# Altium schematic symbol library RPSLib.SchLib: 241 symbols (part 1 of 8)
Pins are listed as number, name and electrical type; pins without a type are passive.

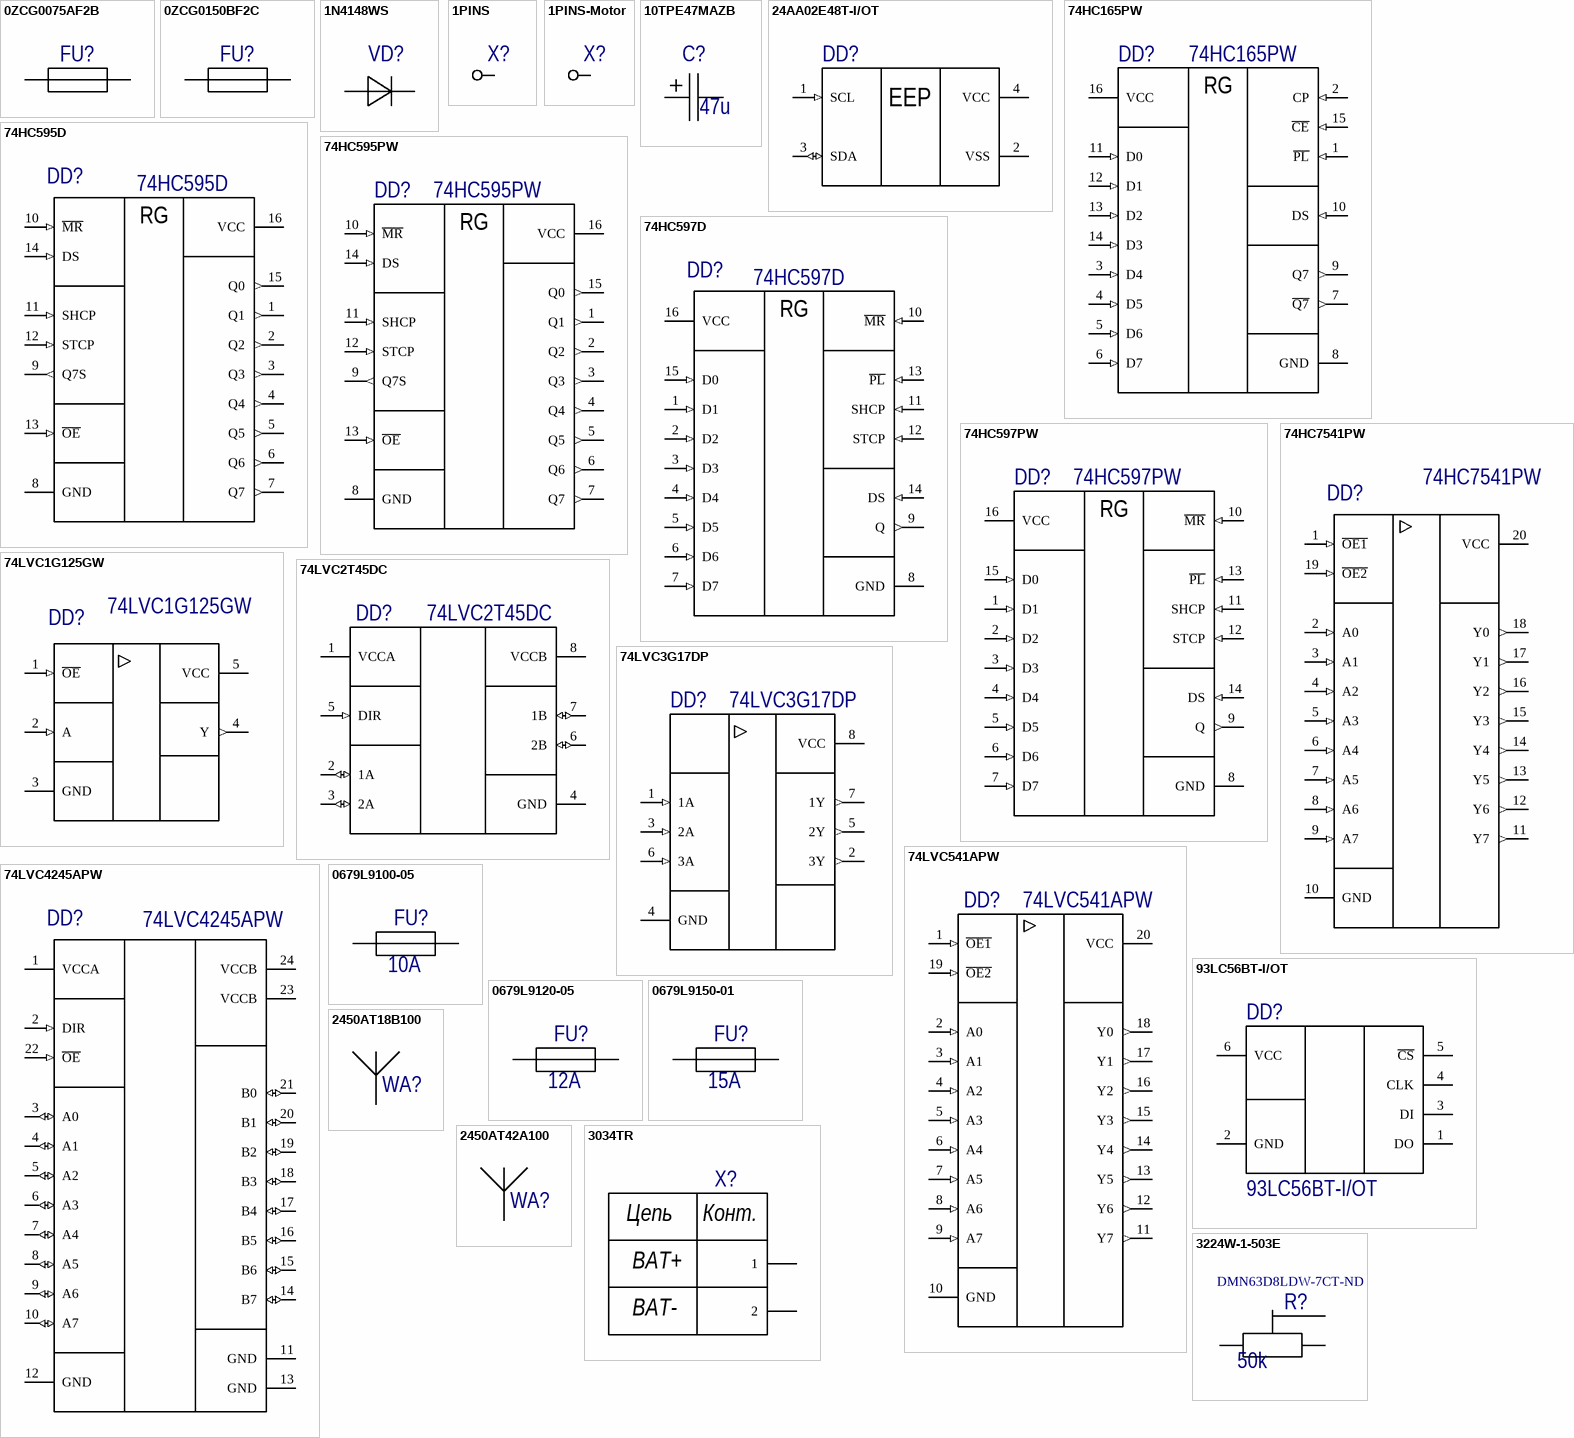
[diagram p0: symbols 0ZCG0075AF2B to 3224W-1-503E]

## 0ZCG0075AF2B
designator FU?  (value not drawn)
PTC RESTTBLE 0.75A 24V CHIP 1812; Manufacturer: Bel; Max Current Rating: 40A; Hold Current: 750mA; Trip Current: 1.5A; Time to Trip: 0.2s; РКД Наименование: *; Supplier 1: Digi-Key; Manufacturer Part Number: 0ZCG0075AF2B; Stock 1: 1719; Pricing 1: 1=0.21, 5=0.2, 10=0.191, 50=0.1706, 100=0.1588, 250=0.1411, 500=0.1176 (USD); Case/Package: 1812; Case Code (Metric): 4532; Case Code (Imperial): 1812; Package Quantity: 1; Packaging: Cut Tape; ComponentLink1URL: https://www.belfuse.com/resources/CircuitProtection/datasheets/0ZCG%20Nov2016.pdf?src-supplier=Digi-Key; ComponentLink1Description: https://www.belfuse.com/resources/CircuitProtection/datasheets/0ZCG%20Nov2016.pdf?src-supplier=Digi-Key; Supplier Part Number 1: 507-1764-1-ND
footprint FUSE4632X15N (Chip Fuse, 2-Leads, Body 4,55x3,24mm, IPC Medium Density)
pins: 1, 2

## 0ZCG0150BF2C
designator FU?  (value not drawn)
PTC RESTTBLE 1.50A 24V CHIP 1812; Manufacturer: Bel; Max Current Rating: 100A; Power Dissipation: 1W; Hold Current: 1.5A; Trip Current: 3A; Time to Trip: 1.5s; Approvals: TUV,UL; Supplier 1: Digi-Key; Manufacturer Part Number: 0ZCG0150BF2C; Stock 1: 213519; Pricing 1: 1=0.21, 5=0.2, 10=0.191, 50=0.1706, 100=0.1588, 250=0.14112, 500=0.1176, 1000=0.11172 (USD); Mount: Surface Mount; Case/Package: 1812; Case Code (Metric): 4532; Case Code (Imperial): 1812; Contact Plating: Matte,Tin; Number of Terminals: 2; Min Operating Temperature: -40°C; Max Operating Temperature: 85°C; Package Quantity: 1; Packaging: Tape and Reel; Max Voltage Rating (DC): 24V; Lead Free: Lead Free; Supplier Part Number 1: 507-1773-1-ND; РКД Наименование: *
footprint FUSE4632X15N (Chip Fuse, 2-Leads, Body 4,55x3,24mm, IPC Medium Density)
pins: 1, 2

## 1N4148WS
designator VD?  (value not drawn)
DIODE GEN PURP 75V 150MA SOD323F; Manufacturer: ON Semiconductor / Fairchild; Element Configuration: Single; Reverse Recovery Time: 4ns; Forward Voltage: 1V; Peak Reverse Current: 5uA; Power Dissipation: 200mW; Max Forward Surge Current (Ifsm): 2A; Supplier 1: Digi-Key; Manufacturer Part Number: 1N4148WS; RoHS: Yes; Category: Rectifier Diodes; Stock 1: 500500; Pricing 1: 1=0,17000, 10=0,15200, 100=0,06350, 500=0,04986, 1000=0,03462 (USD); Mount: Surface Mount; Number of Pins: 2; Weight: 0.0276g; Contact Plating: Tin,Matte; Min Operating Temperature: -55°C; Max Operating Temperature: 150°C; Forward Current: 150mA; Max Repetitive Reverse Voltage (Vrrm): 75V; Packaging: Tape and Reel; Package Quantity: 1; Average Rectified Current: 150mA; Max Reverse Voltage (DC): 75V; Recovery Time: 4ns; Reverse Voltage: 75V; Length: 1.8mm; Height: 1mm; Width: 1.35mm; Radiation Hardening: No; Lead Free: Lead Free; REACH SVHC: No SVHC; ComponentLink1URL: https://datasheet.ciiva.com/25968/1n914bws-25968945.pdf?src-supplier=Avnet+Europe; ComponentLink1Description: https://datasheet.ciiva.com/25968/1n914bws-25968945.pdf?src-supplier=Avnet+Europe; ComponentLink2URL: https://datasheet.ciiva.com/30479/0900766b810e1cd3-30479206.pdf?src-supplier=RSComponents; ComponentLink2Description: https://datasheet.ciiva.com/30479/0900766b810e1cd3-30479206.pdf?src-supplier=RSComponents; ComponentLink3URL: https://datasheet.ciiva.com/15208/getdatasheetpartid-127819-15208358.pdf?src-supplier=Verical; ComponentLink3Description: https://datasheet.ciiva.com/15208/getdatasheetpartid-127819-15208358.pdf?src-supplier=Verical; ComponentLink4URL: https://datasheet.ciiva.com/8300/1n914bws-8300360.pdf?src-supplier=Avnet; ComponentLink4Description: https://datasheet.ciiva.com/8300/1n914bws-8300360.pdf?src-supplier=Avnet; ComponentLink5URL: https://datasheet.ciiva.com/910/1n4148ws-910380.pdf?src-supplier=Digi-Key; ComponentLink5Description: https://datasheet.ciiva.com/910/1n4148ws-910380.pdf?src-supplier=Digi-Key; ComponentLink6URL: https://datasheet.ciiva.com/910/1n4148ws-910381.pdf?src-supplier=Digi-Key; ComponentLink6Description: https://datasheet.ciiva.com/910/1n4148ws-910381.pdf?src-supplier=Digi-Key; ComponentLink7URL: https://datasheet.ciiva.com/910/1n4148ws-910382.pdf?src-supplier=Digi-Key; ComponentLink7Description: https://datasheet.ciiva.com/910/1n4148ws-910382.pdf?src-supplier=Digi-Key; Supplier Part Number 1: 1N4148WSFSCT-ND
footprint SOD323
pins: 1 K, 2 A

## 1PINS
designator X?  (value not drawn)
footprint 1Pin
pins: 1

## 1PINS-Motor
designator X?  (value not drawn)
footprint 1Pin - motor
pins: 1

## 10TPE47MAZB
designator C?  value 47u  (hidden comment: 10TPE47MAZB)
CAP TANT POLY 47UF 10V 1411; Manufacturer: Panasonic; Tolerance: 20%; Leakage Current: 47uA; Polarity: Polar; ESR (Equivalent Series Resistance): 35mR; Ripple Current: 1.4A; Dissipation Factor: 8%; Supplier 1: Digi-Key; Manufacturer Part Number: 10TPE47MAZB; RoHS: Yes; Category: Tantalum Capacitors; Stock 1: 9220; Pricing 1: 1=1,15000, 10=0,90800, 100=0,68080, 500=0,51436, 1000=0,45386 (USD); Mount: Surface Mount; Case/Package: Molded; Number of Pins: 2; Case Code (Metric): 3528; Case Code (Imperial): 1411; Min Operating Temperature: -55°C; Max Operating Temperature: 105°C; Package Quantity: 2000; Packaging: Tape and Reel; Capacitance: 47uF; Voltage Rating: 10V; Voltage Rating (DC): 10V; Termination: SMD/SMT; Voltage: 10V; Features: General Purpose; Length: 3.5mm; Height: 1.9mm; Width: 0.11inch; Height - Seated (Max): 0.079inch; Depth: 2.8mm; Radiation Hardening: No; REACH SVHC: No SVHC; Lead Free: Lead Free; ComponentLink1URL: https://datasheet.ciiva.com/24022/tpe-os-262406-24022443.pdf?src-supplier=Mouser; ComponentLink1Description: https://datasheet.ciiva.com/24022/tpe-os-262406-24022443.pdf?src-supplier=Mouser; ComponentLink2URL: https://datasheet.ciiva.com/48674/aaa8000ce5-48674989.pdf?src-supplier=Avnet; ComponentLink2Description: https://datasheet.ciiva.com/48674/aaa8000ce5-48674989.pdf?src-supplier=Avnet; Supplier Part Number 1: P16230CT-ND
footprint CAPMP3528X19N-B (Molded Capacitor, 2-Leads, Body 3.50x2.80mm, IPC Medium Density)
pins: 1, 2

## 24AA02E48T-I/OT
designator DD?  (value not drawn)
MICROCHIP   24AA02E48T-I/OT   EEPROM, EUI-48 Node Identity, 2 Kbit, 2 BLK (128K x 8bit), 400 kHz, I2C, SOT-23, 5 Pins; Interface: I2C,Serial; Access Time: 3500ns; Density: 2Kb; Max Frequency: 100kHz; Frequency: 400kHz; Max Supply Voltage: 5.5V; Min Supply Voltage: 1.7V; Nominal Supply Current: 3mA; Operating Supply Voltage: 5V; IIC Address: 1010xxx; Supplier 1: Digi-Key; Manufacturer: Microchip; Manufacturer Part Number: 24AA02E48T-I/OT; RoHS: Yes; Category: EEPROM; Stock 1: 7513; Pricing 1: 1=0,22000, 25=0,21000 (USD); Mount: Surface Mount; Case/Package: SOT-23; Number of Pins: 5; Min Operating Temperature: -40°C; Max Operating Temperature: 85°C; Packaging: Tape and Reel; Package Quantity: 3000; Memory Type: EEPROM; Memory Size: 2Kb; Termination: SMD/SMT; Length: 3.1mm; Height: 1.3mm; Width: 1.8mm; Radiation Hardening: No; REACH SVHC: No SVHC; Lead Free: Lead Free; ComponentLink1URL: https://datasheet.ciiva.com/1154/1688094-1154691.pdf?src-supplier=Element14; ComponentLink1Description: https://datasheet.ciiva.com/1154/1688094-1154691.pdf?src-supplier=Element14; ComponentLink2URL: https://datasheet.ciiva.com/1154/1688094-1154692.pdf?src-supplier=Element14; ComponentLink2Description: https://datasheet.ciiva.com/1154/1688094-1154692.pdf?src-supplier=Element14; ComponentLink3URL: https://datasheet.ciiva.com/46410/22124d-46410949.pdf?src-supplier=Element14; ComponentLink3Description: https://datasheet.ciiva.com/46410/22124d-46410949.pdf?src-supplier=Element14; ComponentLink4URL: https://datasheet.ciiva.com/28656/1725195-28656087.pdf?src-supplier=Element14; ComponentLink4Description: https://datasheet.ciiva.com/28656/1725195-28656087.pdf?src-supplier=Element14; ComponentLink5URL: https://datasheet.ciiva.com/16622/22124d-16622937.pdf?src-supplier=Avnet+Europe; ComponentLink5Description: https://datasheet.ciiva.com/16622/22124d-16622937.pdf?src-supplier=Avnet+Europe; ComponentLink6URL: https://datasheet.ciiva.com/16426/filehandler-aspxddocname-en538826-16426700.pdf?src-supplier=Future+Electronics; ComponentLink6Description: https://datasheet.ciiva.com/16426/filehandler-aspxddocname-en538826-16426700.pdf?src-supplier=Future+Electronics; ComponentLink7URL: https://datasheet.ciiva.com/29294/651228-da-01-en-eeprom-24aa02e48t-i-ot-sot-23-5-mcp-29294263.pdf?src-supplier=Conrad; ComponentLink7Description: https://datasheet.ciiva.com/29294/651228-da-01-en-eeprom-24aa02e48t-i-ot-sot-23-5-mcp-29294263.pdf?src-supplier=Conrad; Supplier Part Number 1: 24AA02E48T-I/OTCT-ND
footprint SOT95P280X145-5N (SOT23, 5-Leads, Body 2.90x2.80mm, Pitch 0.95mm, IPC Medium Density)
pins: 1 SCL (in), 2 VSS (power), 3 SDA (io), 4 VCC (power)
text: EEP

## 74HC165PW
designator DD?
IC SHIFT REGISTER 8BIT 16TSSOP; Manufacturer: Nexperia; Manufacturer Part Number: 74HC165PW,118; Supplier 1: Digi-Key; RoHS: No; Stock 1: 19921; Pricing 1: 1=0,41000, 10=0,33600, 25=0,30720, 100=0,22870, 250=0,20728, 500=0,17152, 1000=0,12865 (USD); Supplier Part Number 1: 1727-4295-1-ND
footprint TSOP65P640X110-16N (TSOP, 16-Leads, Body 5,00x4,40mm, Pitch 0,65mm, IPC Medium Density)
pins: 1 ~{PL} (in), 2 CP (in), 3 D4 (in), 4 D5 (in), 5 D6 (in), 6 D7 (in), 7 ~{Q7} (out), 8 GND (power), 9 Q7 (out), 10 DS (in), 11 D0 (in), 12 D1 (in), 13 D2 (in), 14 D3 (in), 15 ~{CE} (in), 16 VCC (power)
text: RG

## 74HC595D
designator DD?
IC SHIFT REGISTER 8BIT 16SOIC; Manufacturer: Nexperia; Manufacturer Part Number: 74HC595D,118; Supplier 1: Digi-Key; Stock 1: 104953; Pricing 1: 1=0,48000, 10=0,36500, 25=0,32920, 100=0,22740, 250=0,19148, 500=0,15558, 1000=0,11968 (USD); RoHS: No; ComponentLink1URL: http://www.farnell.com/datasheets/2038613.pdf?src-supplier=Farnell; ComponentLink1Description: http://www.farnell.com/datasheets/2038613.pdf?src-supplier=Farnell; ComponentLink2URL: http://www.farnell.com/datasheets/2038613.pdf?src-supplier=Newark; ComponentLink2Description: http://www.farnell.com/datasheets/2038613.pdf?src-supplier=Newark; ComponentLink3URL: http://www.farnell.com/datasheets/2038613.pdf?src-supplier=Element14; ComponentLink3Description: http://www.farnell.com/datasheets/2038613.pdf?src-supplier=Element14; ComponentLink4URL: https://assets.nexperia.com/documents/data-sheet/74HC_HCT595.pdf?src-supplier=Digi-Key; ComponentLink4Description: https://assets.nexperia.com/documents/data-sheet/74HC_HCT595.pdf?src-supplier=Digi-Key; Supplier Part Number 1: 1727-2821-1-ND
footprint SOIC127P600X175-16N (SOIC, 16-Leads, Body 9,90x3,90mm, Pitch 1,27mm, IPC Medium Density)
pins: 1 Q1 (out), 2 Q2 (out), 3 Q3 (out), 4 Q4 (out), 5 Q5 (out), 6 Q6 (out), 7 Q7 (out), 8 GND (power), 9 Q7S (out), 10 ~{MR} (in), 11 SHCP (in), 12 STCP (in), 13 ~{OE} (in), 14 DS (in), 15 Q0 (out), 16 VCC (power)
text: RG

## 74HC595PW
designator DD?
IC SHIFT REGISTER 8BIT 16TSSOP; Manufacturer: Nexperia; Manufacturer Part Number: 74HC595PW,118; Supplier 1: Digi-Key; RoHS: No; Stock 1: 252659; Pricing 1: 1=0,48000, 10=0,35900, 25=0,32400, 100=0,22390, 250=0,18856, 500=0,15320, 1000=0,11784 (USD); ComponentLink1URL: http://www.farnell.com/datasheets/2242041.pdf?src-supplier=Farnell; ComponentLink1Description: http://www.farnell.com/datasheets/2242041.pdf?src-supplier=Farnell; ComponentLink2URL: https://assets.nexperia.com/documents/data-sheet/74HC_HCT595.pdf?src-supplier=Digi-Key; ComponentLink2Description: https://assets.nexperia.com/documents/data-sheet/74HC_HCT595.pdf?src-supplier=Digi-Key; Supplier Part Number 1: 1727-3068-1-ND
footprint TSOP65P640X110-16N (TSOP, 16-Leads, Body 5,00x4,40mm, Pitch 0,65mm, IPC Medium Density)
pins: 1 Q1 (out), 2 Q2 (out), 3 Q3 (out), 4 Q4 (out), 5 Q5 (out), 6 Q6 (out), 7 Q7 (out), 8 GND (power), 9 Q7S (out), 10 ~{MR} (in), 11 SHCP (in), 12 STCP (in), 13 ~{OE} (in), 14 DS (in), 15 Q0 (out), 16 VCC (power)
text: RG

## 74HC597D
designator DD?
IC SHIFT REGISTER 8BIT 16SOIC; Manufacturer: NXP Semiconductors; Manufacturer Part Number: 74HC597D653; Operating Supply Voltage: 5V; Direction: Unidirectional; Number of Inputs: 8; Number of Elements: 1; Propagation Delay: 16ns; Min Supply Voltage: 2V; Max Supply Voltage: 6V; Number of Input Lines: 9; Turn-On Delay Time: 375ns; Quiescent Current: 8uA; RoHS: Yes; Mount: Surface Mount; Case/Package: SO; Number of Pins: 16; Contact Plating: Gold; Min Operating Temperature: -40°C; Max Operating Temperature: 125°C; Logic Function: Shift Register; Package Quantity: 1; Packaging: Tape and Reel; Number of Bits per Element: 8; Number of Circuits: 1; Number of Output Lines: 1; Number of Bits: 8; Radiation Hardening: No; REACH SVHC: No SVHC; Lead Free: Lead Free; ComponentLink1URL: https://datasheet.ciiva.com/1886/74hc-hct597-1886032.pdf?src-supplier=Digi-Key; ComponentLink1Description: https://datasheet.ciiva.com/1886/74hc-hct597-1886032.pdf?src-supplier=Digi-Key; ComponentLink2URL: https://datasheet.ciiva.com/46414/1841946-46414906.pdf?src-supplier=Element14; ComponentLink2Description: https://datasheet.ciiva.com/46414/1841946-46414906.pdf?src-supplier=Element14; ComponentLink3URL: https://datasheet.ciiva.com/1886/74hc-hct597-1886030.pdf?src-supplier=Digi-Key; ComponentLink3Description: https://datasheet.ciiva.com/1886/74hc-hct597-1886030.pdf?src-supplier=Digi-Key; ComponentLink4URL: https://datasheet.ciiva.com/1886/74hc-hct597-1886031.pdf?src-supplier=Digi-Key; ComponentLink4Description: https://datasheet.ciiva.com/1886/74hc-hct597-1886031.pdf?src-supplier=Digi-Key; Supplier 1: Digi-Key; Supplier Part Number 1: 1727-6341-1-ND
footprint SOIC127P600X175-16N (SOIC, 16-Leads, Body 9,90x3,90mm, Pitch 1,27mm, IPC Medium Density)
pins: 1 D1 (in), 2 D2 (in), 3 D3 (in), 4 D4 (in), 5 D5 (in), 6 D6 (in), 7 D7 (in), 8 GND (power), 9 Q (out), 10 ~{MR} (in), 11 SHCP (in), 12 STCP (in), 13 ~{PL} (in), 14 DS (in), 15 D0 (in), 16 VCC (power)
text: RG

## 74HC597PW
designator DD?
IC 8BIT SHIFT REGISTER 16TSSOP; Manufacturer: Nexperia USA; Manufacturer Part Number: 74HC597PW,118; Supplier 1: Digi-Key; RoHS: No; Stock 1: 9837; Pricing 1: 1=0,63000, 10=0,53700, 25=0,50080, 100=0,40060, 250=0,37200, 500=0,31476, 1000=0,24322 (USD); ComponentLink1URL: https://assets.nexperia.com/documents/data-sheet/74HC_HCT597.pdf?src-supplier=Digi-Key; ComponentLink1Description: https://assets.nexperia.com/documents/data-sheet/74HC_HCT597.pdf?src-supplier=Digi-Key; Supplier Part Number 1: 1727-5962-1-ND
footprint TSOP65P640X110-16N (TSOP, 16-Leads, Body 5,00x4,40mm, Pitch 0,65mm, IPC Medium Density)
pins: 1 D1 (in), 2 D2 (in), 3 D3 (in), 4 D4 (in), 5 D5 (in), 6 D6 (in), 7 D7 (in), 8 GND (power), 9 Q (out), 10 ~{MR} (in), 11 SHCP (in), 12 STCP (in), 13 ~{PL} (in), 14 DS (in), 15 D0 (in), 16 VCC (power)
text: RG

## 74HC7541PW
designator DD?
Schmitt Trigger Buffer/Line Driver 8-CH Non-Inverting 3-ST CMOS 20-Pin TSSOP T/R; Manufacturer: Nexperia; Manufacturer Part Number: 74HC7541PW,118; Supplier 1: Digi-Key; Stock 1: 1843; Pricing 1: 1=0,77000, 10=0,68000, 25=0,63880, 100=0,52120, 250=0,48412, 500=0,41200, 1000=0,32960 (USD); RoHS: No; Supplier Part Number 1: 1727-7531-1-ND
footprint TSOP65P640X110-20N (TSOP, 20-Leads, Body 6,50x4,40mm, Pitch 0,65mm, IPC Medium Density)
pins: 1 ~{OE1} (in), 2 A0 (in), 3 A1 (in), 4 A2 (in), 5 A3 (in), 6 A4 (in), 7 A5 (in), 8 A6 (in), 9 A7 (in), 10 GND (power), 11 Y7 (out), 12 Y6 (out), 13 Y5 (out), 14 Y4 (out), 15 Y3 (out), 16 Y2 (out), 17 Y1 (out), 18 Y0 (out), 19 ~{OE2} (in), 20 VCC (power)

## 74LVC1G125GW
designator DD?
IC BUF NON-INVERT 5.5V 5TSSOP; Manufacturer: Nexperia USA; Manufacturer Part Number: 74LVC1G125GW,125; Supplier 1: Digi-Key; Stock 1: 102445; Pricing 1: 1=0,25000, 10=0,20600, 25=0,17240, 100=0,10910, 250=0,08420, 500=0,07178, 1000=0,04881 (USD); RoHS: No; ComponentLink1URL: http://www.farnell.com/datasheets/2192952.pdf?src-supplier=Farnell; ComponentLink1Description: http://www.farnell.com/datasheets/2192952.pdf?src-supplier=Farnell; ComponentLink2URL: https://assets.nexperia.com/documents/data-sheet/74LVC1G125.pdf?src-supplier=Digi-Key; ComponentLink2Description: https://assets.nexperia.com/documents/data-sheet/74LVC1G125.pdf?src-supplier=Digi-Key; Supplier Part Number 1: 1727-3488-1-ND
footprint SOT65P212X110-5N (SOT23, 5-Leads, Body 2,05x2,13mm, Pitch 0,65mm, IPC Medium Density)
pins: 1 ~{OE} (in), 2 A (in), 3 GND (power), 4 Y (out), 5 VCC (power)

## 74LVC2T45DC
designator DD?
IC TRNSLTR BIDIRECTIONAL 8VSSOP; Manufacturer: Nexperia; Manufacturer Part Number: 74LVC2T45DC,125; Supplier 1: Digi-Key; RoHS: No; Stock 1: 13578; Pricing 1: 1=0,65000, 10=0,55700, 100=0,38650, 500=0,31216, 1000=0,23041 (USD); ComponentLink1URL: http://www.farnell.com/datasheets/1758266.pdf?src-supplier=Farnell; ComponentLink1Description: http://www.farnell.com/datasheets/1758266.pdf?src-supplier=Farnell; ComponentLink2URL: https://assets.nexperia.com/documents/data-sheet/74LVC_LVCH2T45.pdf?src-supplier=Digi-Key; ComponentLink2Description: https://assets.nexperia.com/documents/data-sheet/74LVC_LVCH2T45.pdf?src-supplier=Digi-Key; Supplier Part Number 1: 1727-4578-1-ND
footprint TSSOP50P310X100-8N (TSSOP, 8-Leads, Body 2,00x2,30mm, Pitch 0,50mm, IPC Medium Density)
pins: 1 VCCA, 2 1A (io), 3 2A (io), 4 GND, 5 DIR (in), 6 2B (io), 7 1B (io), 8 VCCB (power)

## 74LVC3G17DP
designator DD?
IC BUF NON-INVERT 5.5V 8TSSOP; Manufacturer: Nexperia; Manufacturer Part Number: 74LVC3G17DP,125; Supplier 1: Digi-Key; RoHS: No; Stock 1: 88518; Pricing 1: 1=0,56000, 10=0,48300, 25=0,45080, 100=0,36050, 250=0,33476, 500=0,28326, 1000=0,21888 (USD); ComponentLink1URL: https://assets.nexperia.com/documents/data-sheet/74LVC3G17.pdf?src-supplier=Digi-Key; ComponentLink1Description: https://assets.nexperia.com/documents/data-sheet/74LVC3G17.pdf?src-supplier=Digi-Key; Supplier Part Number 1: 1727-5998-1-ND
footprint TSSOP50P310X100-8N (TSSOP, 8-Leads, Body 2,00x2,30mm, Pitch 0,50mm, IPC Medium Density)
pins: 1 1A (in), 2 3Y (out), 3 2A (in), 4 GND (power), 5 2Y (out), 6 3A (in), 7 1Y (out), 8 VCC (power)

## 74LVC541APW
designator DD?
IC BUF NON-INVERT 3.6V 20TSSOP; Manufacturer: Nexperia; Manufacturer Part Number: 74LVC541APW,118; Supplier 1: Digi-Key; Stock 1: 35269; Pricing 1: 1=0,49000, 10=0,39800, 25=0,36440, 100=0,27120, 250=0,24576, 500=0,20338, 1000=0,15253 (USD); RoHS: No; ComponentLink1URL: https://assets.nexperia.com/documents/data-sheet/74LVC541A.pdf?src-supplier=Digi-Key; ComponentLink1Description: https://assets.nexperia.com/documents/data-sheet/74LVC541A.pdf?src-supplier=Digi-Key; Supplier Part Number 1: 1727-6370-1-ND
footprint TSOP65P640X110-20N (TSOP, 20-Leads, Body 6,50x4,40mm, Pitch 0,65mm, IPC Medium Density)
pins: 1 ~{OE1} (in), 2 A0 (in), 3 A1 (in), 4 A2 (in), 5 A3 (in), 6 A4 (in), 7 A5 (in), 8 A6 (in), 9 A7 (in), 10 GND (power), 11 Y7 (out), 12 Y6 (out), 13 Y5 (out), 14 Y4 (out), 15 Y3 (out), 16 Y2 (out), 17 Y1 (out), 18 Y0 (out), 19 ~{OE2} (in), 20 VCC (power)

## 74LVC4245APW
designator DD?
IC TRNSLTR BIDIRECTIONAL 24TSSOP; Manufacturer: Nexperia; Manufacturer Part Number: 74LVC4245APW,118; Supplier 1: Digi-Key; Stock 1: 36824; Pricing 1: 1=0,67000, 10=0,58900, 25=0,55320, 100=0,45160, 250=0,41948, 500=0,35700, 1000=0,28560 (USD); RoHS: No; ComponentLink1URL: http://www.farnell.com/datasheets/1714648.pdf?src-supplier=Farnell; ComponentLink1Description: http://www.farnell.com/datasheets/1714648.pdf?src-supplier=Farnell; ComponentLink2URL: https://assets.nexperia.com/documents/data-sheet/74LVC4245A.pdf?src-supplier=Digi-Key; ComponentLink2Description: https://assets.nexperia.com/documents/data-sheet/74LVC4245A.pdf?src-supplier=Digi-Key; ComponentLink3URL: http://www.farnell.com/datasheets/1714648.pdf?src-supplier=Element14; ComponentLink3Description: http://www.farnell.com/datasheets/1714648.pdf?src-supplier=Element14; Supplier Part Number 1: 1727-4308-6-ND
footprint TSOP65P640X110-24N (TSOP, 24-Leads, Body 7,80x4,40mm, Pitch 0,65mm, IPC Medium Density)
pins: 1 VCCA (power), 2 DIR (in), 3 A0 (io), 4 A1 (io), 5 A2 (io), 6 A3 (io), 7 A4 (io), 8 A5 (io), 9 A6 (io), 10 A7 (io), 11 GND (power), 12 GND (power), 13 GND (power), 14 B7 (io), 15 B6 (io), 16 B5 (io), 17 B4 (io), 18 B3 (io), 19 B2 (io), 20 B1 (io), 21 B0 (io), 22 ~{OE} (in), 23 VCCB (power), 24 VCCB (power)

## 93LC56BT-I/OT
designator DD?
IC EEPROM 2K SPI 2MHZ SOT23-6; Manufacturer: Microchip; Density: 2Kb; Interface: Serial; Max Supply Voltage: 5.5V; Min Supply Voltage: 2.5V; Access Time: 250ns; Nominal Supply Current: 2mA; Supplier 1: Digi-Key; Manufacturer Part Number: 93LC56BT-I/OT; Stock 1: 30936; Pricing 1: 1=0.23, 25=0.2164, 100=0.2119 (USD); Mount: Surface Mount; Case/Package: SOT-23; Number of Pins: 6; Contact Plating: Matte,Tin; Min Operating Temperature: -40°C; Max Operating Temperature: 85°C; Max Frequency: 2MHz; Packaging: Tape and Reel; Package Quantity: 3000; Memory Size: 2Kb; Frequency: 2MHz; Memory Type: EEPROM; Length: 3.1mm; Height: 1.3mm; Width: 1.8mm; Radiation Hardening: No; REACH SVHC: No SVHC; Lead Free: Lead Free; ComponentLink1URL: http://ww1.microchip.com/downloads/jp/DeviceDoc/jp013939.pdf; ComponentLink1Description: http://ww1.microchip.com/downloads/jp/DeviceDoc/jp013939.pdf; ComponentLink2URL: http://www.microchip.com/mymicrochip/filehandler.aspx?ddocname=en013939; ComponentLink2Description: http://www.microchip.com/mymicrochip/filehandler.aspx?ddocname=en013939; Supplier Part Number 1: 93LC56BT-I/OTCT-ND
footprint SOT95P280X145-6N (SOT23, 6-Leads, Body 2.92x2.80mm, Pitch 0.95mm, IPC Medium Density)
pins: 1 DO, 2 GND, 3 DI, 4 CLK, 5 ~{CS}, 6 VCC

## 0679L9100-05
designator FU?  Current Rating: 10A  (hidden comment: 0679L9100-05)
FUSE BRD MNT 10A 125VAC/VDC; Manufacturer: Bel; Fuse Type: Board Mount (Cartridge Style Excluded); Voltage Rating (AC): 125V; DC Cold Resistance: 6.6mR; Approvals: cURus; Supplier 1: Digi-Key; Manufacturer Part Number: 0679L9100-05; RoHS: Yes; Category: Fuses; Stock 1: 2626; Pricing 1: 1=0,39000, 5=0,38000, 10=0,36700, 50=0,30920, 100=0,25660, 250=0,23332, 500=0,19832, 1000=0,17498 (USD); Mount: Surface Mount; Case/Package: 2410; Case Code (Imperial): 2410; Case Code (Metric): 6125; Min Operating Temperature: -55°C; Max Operating Temperature: 125°C; Packaging: Tape and Reel; Voltage Rating (DC): 125V; Length: 0.24inch; Height: 0.11inch; Width: 0.1inch; ComponentLink1URL: http://www.belfuse.com/resources/CircuitProtection/datasheets/0679L%20Sep2016.pdf?src-supplier=Digi-Key; ComponentLink1Description: http://www.belfuse.com/resources/CircuitProtection/datasheets/0679L%20Sep2016.pdf?src-supplier=Digi-Key; ComponentLink2URL: https://www.belfuse.com/resources/CircuitProtection/datasheets/0679L%20Sep2016.pdf?src-supplier=Digi-Key; ComponentLink2Description: https://www.belfuse.com/resources/CircuitProtection/datasheets/0679L%20Sep2016.pdf?src-supplier=Digi-Key; Supplier Part Number 1: 507-1998-1-ND
footprint 0679L BelFuse
pins: 1, 2

## 0679L9120-05
designator FU?  Current Rating: 12A  (hidden comment: 0679L9120-05)
FUSE BRD MNT 12A 125VAC/VDC; Manufacturer: Bel; Voltage Rating (AC): 125V; DC Cold Resistance: 5.6mR; Fuse Type: Board Mount (Cartridge Style Excluded); Approvals: cURus; Supplier 1: Digi-Key; Manufacturer Part Number: 0679L9120-05; RoHS: Yes; Category: Fuses; Stock 1: 7733; Pricing 1: 1=0,39000, 5=0,38000, 10=0,36700, 50=0,30920, 100=0,25660, 250=0,23332, 500=0,19832, 1000=0,17498 (USD); Mount: Surface Mount; Case/Package: 2410; Case Code (Metric): 6125; Case Code (Imperial): 2410; Min Operating Temperature: -55°C; Max Operating Temperature: 125°C; Packaging: Tape and Reel; Voltage Rating (DC): 125V; Length: 0.24inch; Height: 0.11inch; Width: 0.1inch; ComponentLink1URL: http://www.belfuse.com/resources/CircuitProtection/datasheets/0679L%20Sep2016.pdf?src-supplier=Digi-Key; ComponentLink1Description: http://www.belfuse.com/resources/CircuitProtection/datasheets/0679L%20Sep2016.pdf?src-supplier=Digi-Key; ComponentLink2URL: https://www.belfuse.com/resources/CircuitProtection/datasheets/0679L%20Sep2016.pdf?src-supplier=Digi-Key; ComponentLink2Description: https://www.belfuse.com/resources/CircuitProtection/datasheets/0679L%20Sep2016.pdf?src-supplier=Digi-Key; Supplier Part Number 1: 507-1999-1-ND
footprint 0679L BelFuse
pins: 1, 2

## 0679L9150-01
designator FU?  Current Rating: 15A  (hidden comment: 0679L9150-01)
Fuse Chip Fast Acting 15A 125V Solder Pad SMD 2410 Ceramic T/R; Manufacturer: Bel; DC Cold Resistance: 3.8mR; Fuse Type: Board Mount (Cartridge Style Excluded); Approvals: cURus; Supplier 1: Digi-Key; Manufacturer Part Number: 0679L9150-01; RoHS: Yes; Category: Fuses; Stock 1: 2294; Pricing 1: 1=0,48000, 5=0,47000, 10=0,45500, 50=0,38260, 100=0,31760, 250=0,28876, 500=0,24544 (USD); Mount: Surface Mount; Case/Package: 2410; Case Code (Metric): 6125; Case Code (Imperial): 2410; Min Operating Temperature: -55°C; Max Operating Temperature: 125°C; Packaging: Tape and Reel; Voltage Rating (AC): 125V; Voltage Rating (DC): 125V; Length: 0.24inch; Height: 0.11inch; Width: 0.1inch; ComponentLink1URL: http://www.belfuse.com/resources/CircuitProtection/datasheets/0679L%20Sep2016.pdf?src-supplier=Digi-Key; ComponentLink1Description: http://www.belfuse.com/resources/CircuitProtection/datasheets/0679L%20Sep2016.pdf?src-supplier=Digi-Key; ComponentLink2URL: https://www.belfuse.com/resources/CircuitProtection/datasheets/0679L%20Sep2016.pdf?src-supplier=Digi-Key; ComponentLink2Description: https://www.belfuse.com/resources/CircuitProtection/datasheets/0679L%20Sep2016.pdf?src-supplier=Digi-Key; Supplier Part Number 1: 507-1979-1-ND
footprint 0679L BelFuse
pins: 1, 2

## 2450AT18B100
designator WA?  (value not drawn)
2450 MHz Chip antenna; Manufacturer: Johanson; Manufacturer Part Number: 2450AT18B100E; Impedance: 50R; Bandwidth: 100MHz; Power Rating: 3W; Number of Bands: 1; Return Loss: -9.5dB; Frequency: 2.45GHz; Max Frequency: 2.5GHz; Gain: -0.5dB; Supplier 1: Digi-Key; Stock 1: 179928; Pricing 1: 1=0.62, 10=0.541, 25=0.4788, 100=0.4172, 250=0.36308, 500=0.309, 1000=0.2472 (USD); Mount: Surface Mount; Case/Package: CSMD; Contact Plating: Tin; Min Operating Temperature: -40°C; Max Operating Temperature: 85°C; Package Quantity: 1; Packaging: Tape and Reel; Max Power Dissipation: 3W; Termination: Solder; Length: 3.2mm; Height: 0.051inch; Width: 1.6mm; Radiation Hardening: No; REACH SVHC: No SVHC; РКД Наименование: *; Supplier Part Number 1: 712-1006-1-ND
footprint 2450AT18B100 (2450 MHz Chip Antenna)
pins: 1 2

## 2450AT42A100
designator WA?  (value not drawn)
2450 MHz Chip antenna; Manufacturer: Johanson; Manufacturer Part Number: 2450AT42A100E; Impedance: 50R; Power Rating: 3W; Number of Bands: 1; Return Loss: -9.5dB; Frequency: 2.45GHz; Max Frequency: 2.5GHz; Gain: -1dB; РКД Наименование: 2450AT42A100 - Chip Antenna 2.4 GHz; Supplier 1: Digi-Key; Stock 1: 0; Mount: Surface Mount; Number of Pins: 2; Contact Plating: Tin; Min Operating Temperature: -40°C; Max Operating Temperature: 85°C; Package Quantity: 1; Packaging: Tape and Reel; Max Power Dissipation: 3W; Composition: Ceramic; Length: 5mm; Height: 0.043inch; Width: 2mm; Radiation Hardening: No; REACH SVHC: Unknown; Termination: Solder; Supplier Part Number 1: 712-1007-1-ND
footprint 2450AT42A100 (2450 MHz Chip antenna)
pins: 1 21

## 3034TR
designator X?  (value not drawn)
Держатель батареи; Manufacturer: JST; Manufacturer Part Number: B2B-XH-A(LF)(SN); Number of Positions: 2; Connector Type: Male Pin; Contact Resistance: 20mR; Max Current Rating: 3A; Max Voltage Rating (AC): 250V; Insulation Resistance: 1GR; Pitch: 2.5mm; Wire/Cable Gauge: 22AWG; Supplier 1: Digi-Key; Stock 1: 494280; Pricing 1: 1=0.15, 10=0.141, 100=0.0868, 500=0.07182, 1000=0.06284, 5000=0.05387, 10000=0.05237 (USD); Mount: Through Hole; Contact Plating: Copper,Lead,Tin; Colour: Natural; Contact Material: Brass; Housing Material: Polyamide; Housing Colour: White; Min Operating Temperature: -25°C; Max Operating Temperature: 85°C; Termination: Solder; Number of Rows: 1; Packaging: Bulk; Fastening Type: Detent; Orientation: Straight; Current Rating: 3A; Voltage Rating: 250V; Voltage Rating (AC): 250V; Number of Contacts: 2; Max Voltage Rating (DC): 250V; Length: 7.4mm; Depth: 5.75mm; Lead Pitch: 2.5mm; Lead Free: Lead Free; REACH SVHC: No SVHC; Supplier Part Number 1: 455-2247-ND; РКД Наименование: *
footprint 3034TR (3034TR Battery Holder)
pins: 1, 2
text: Цепь; Конт.; BAT+; BAT-

## 3224W-1-503E
designator R?  value 50k  Supplier Part Number 2: DMN63D8LDW-7CT-ND  (hidden comment: *)
MOSFET 2N-CH 30V 0.22A SOT363; Manufacturer: Bourns; Manufacturer Part Number: 3224W-1-503E; Tolerance: 10%; Number of Turns: 12; Power Rating: 250mW; Temperature Coefficient: 100ppm/°C; Voltage Rating: 300V; Insulation Resistance: 100MR; Rise Time: 3.2ns; Rds On Max: 2.8R; Input Capacitance: 22pF; Continuous Drain Current (ID): 260mA; Turn-On Delay Time: 3.3ns; Turn-Off Delay Time: 12ns; Fall Time: 6.3ns; Number of Elements: 2; Power Dissipation: 400mW; Threshold Voltage: 1.5V; Gate to Source Voltage (Vgs): 20V; Element Configuration: Dual; FET Type: 2 N-Channel; Supplier 1: Digi-Key; Stock 1: 2457; Pricing 1: 1=4,92000, 10=4,50700, 25=4,01560, 50=3,76980, 100=3,44190 (USD); RoHS: Yes; Mount: Surface Mount; Weight: 0.283g; Color: Natural; Contact Plating: Tin; Min Operating Temperature: -65°C; Max Operating Temperature: 150°C; Resistance: 50k; Composition: Cermet,Potentiometer; Packaging: Tape and Reel; Package Quantity: 1; Termination: J-Hook; Taper: Linear; Military Standard: Not; Max Power Dissipation: 250mW; Voltage Rating (DC): 300V; Type: Potentiometer; Length: 4.8mm; Height: 0.208inch; Width: 4.8mm; Depth: 3.9mm; Radiation Hardening: No; REACH SVHC: No SVHC; Lead Free: Lead Free; ComponentLink1URL: https://datasheet.ciiva.com/34301/696327-34301426.pdf?src-supplier=Jameco; ComponentLink1Description: https://datasheet.ciiva.com/34301/696327-34301426.pdf?src-supplier=Jameco; ComponentLink2URL: https://datasheet.ciiva.com/11830/0900766b8002e254-11830876.pdf?src-supplier=RSComponents; ComponentLink2Description: https://datasheet.ciiva.com/11830/0900766b8002e254-11830876.pdf?src-supplier=RSComponents; ComponentLink3URL: https://datasheet.ciiva.com/26913/3224w-1-503e-26913806.pdf?src-supplier=IIIC; ComponentLink3Description: https://datasheet.ciiva.com/26913/3224w-1-503e-26913806.pdf?src-supplier=IIIC; ComponentLink4URL: https://datasheet.ciiva.com/2156/3224-2156840.pdf?src-supplier=Digi-Key; ComponentLink4Description: https://datasheet.ciiva.com/2156/3224-2156840.pdf?src-supplier=Digi-Key; ComponentLink5URL: https://datasheet.ciiva.com/2156/3224-2156841.pdf?src-supplier=Digi-Key; ComponentLink5Description: https://datasheet.ciiva.com/2156/3224-2156841.pdf?src-supplier=Digi-Key; ComponentLink6URL: https://datasheet.ciiva.com/3266/3224-3266153.pdf?src-supplier=Avnet; ComponentLink6Description: https://datasheet.ciiva.com/3266/3224-3266153.pdf?src-supplier=Avnet; ComponentLink7URL: https://datasheet.ciiva.com/16714/70153346-16714873.pdf?src-supplier=Allied+Electronics; ComponentLink7Description: https://datasheet.ciiva.com/16714/70153346-16714873.pdf?src-supplier=Allied+Electronics; ComponentLink8URL: https://datasheet.ciiva.com/2156/3224-2156842.pdf?src-supplier=Digi-Key; ComponentLink8Description: https://datasheet.ciiva.com/2156/3224-2156842.pdf?src-supplier=Digi-Key; ComponentLink9URL: https://datasheet.ciiva.com/7400/1849486-7400666.pdf?src-supplier=Newark; ComponentLink9Description: https://datasheet.ciiva.com/7400/1849486-7400666.pdf?src-supplier=Newark; ComponentLink10URL: https://datasheet.ciiva.com/7813/1598300-7813387.pdf?src-supplier=Element14; ComponentLink10Description: https://datasheet.ciiva.com/7813/1598300-7813387.pdf?src-supplier=Element14; ComponentLink11URL: https://datasheet.ciiva.com/26319/eq3224-dat-e-26319835.pdf?src-supplier=Distrelec; ComponentLink11Description: https://datasheet.ciiva.com/26319/eq3224-dat-e-26319835.pdf?src-supplier=Distrelec; ComponentLink12URL: https://datasheet.ciiva.com/30226/3224-30226717.pdf?src-supplier=Onlinecomponents.com; ComponentLink12Description: https://datasheet.ciiva.com/30226/3224-30226717.pdf?src-supplier=Onlinecomponents.com; ComponentLink13URL: https://datasheet.ciiva.com/1135/1849486-1135454.pdf?src-supplier=Newark; ComponentLink13Description: https://datasheet.ciiva.com/1135/1849486-1135454.pdf?src-supplier=Newark; ComponentLink14URL: https://datasheet.ciiva.com/48692/001054892-da-01-en-smd-trimmer-3224w-1-503e-50k-ohm-0-25w-48692743.pdf?src-supplier=Conrad; ComponentLink14Description: https://datasheet.ciiva.com/48692/001054892-da-01-en-smd-trimmer-3224w-1-503e-50k-ohm-0-25w-48692743.pdf?src-supplier=Conrad; Supplier Part Number 1: 3224W-1-503ECT-ND; Supplier 2: Digi-Key; Category: MOSFETs; Stock 2: 258650; Pricing 2: 1=0,31000, 10=0,25000, 100=0,10250, 500=0,08552, 1000=0,05942 (USD); Case/Package: SOT-363; Number of Pins: 6; Drain to Source Voltage (Vdss): 30V; Drain to Source Resistance: 2.8R; Number of Channels: 2; Drain to Source Breakdown Voltage: 30V; ComponentLink15URL: https://datasheet.ciiva.com/30023/dmn63d8ldw-30023824.pdf?src-supplier=Avnet; ComponentLink15Description: https://datasheet.ciiva.com/30023/dmn63d8ldw-30023824.pdf?src-supplier=Avnet; ComponentLink16URL: https://datasheet.ciiva.com/6384/dmn63d8ldw-6384534.pdf?src-supplier=Digi-Key; ComponentLink16Description: https://datasheet.ciiva.com/6384/dmn63d8ldw-6384534.pdf?src-supplier=Digi-Key
footprint R3224W (Подстроечный резистор)
pins: 1 CCW, 2 W, 3 CW
1 alternate drawing of the same symbol

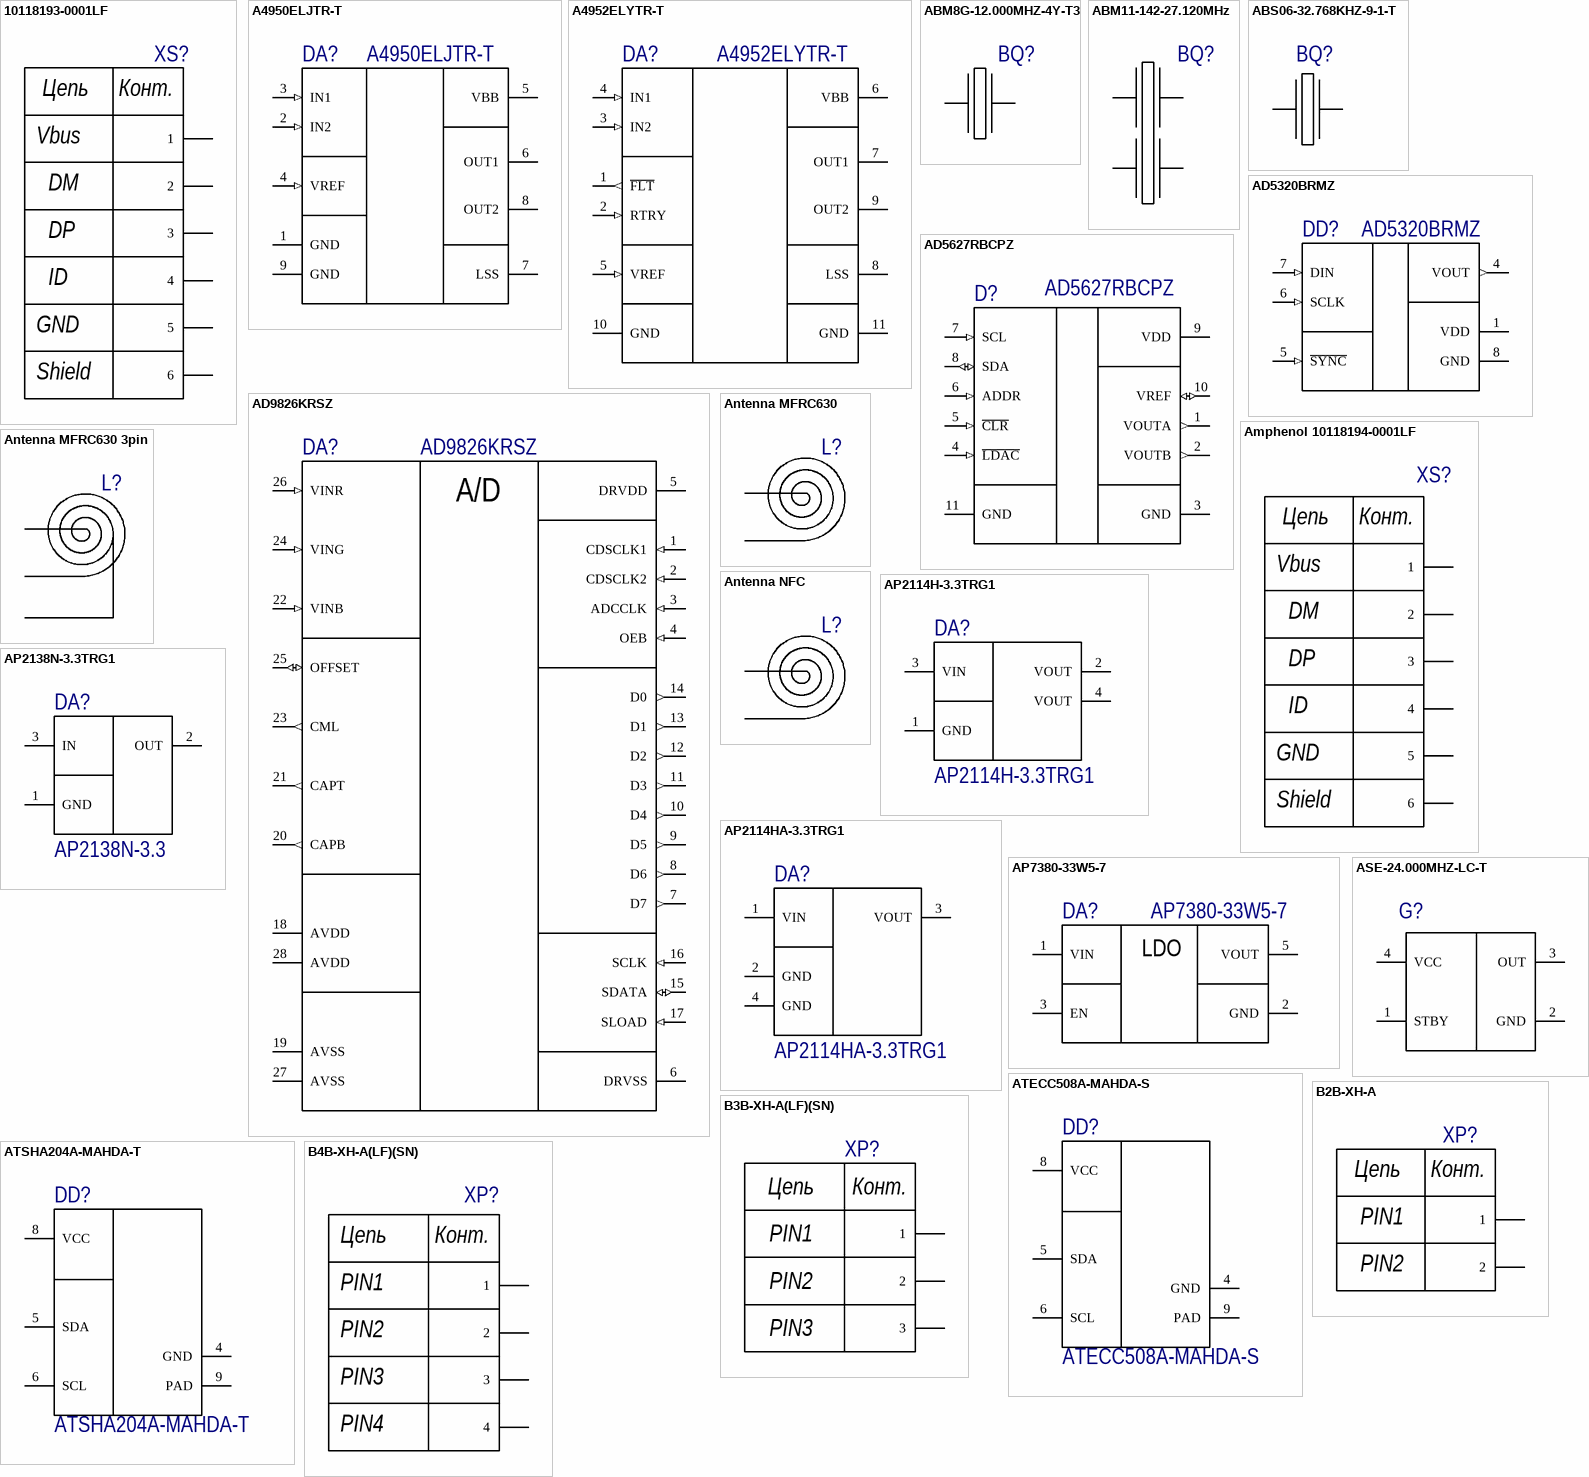
[diagram p1: symbols 10118193-0001LF to B4B-XH-A(LF)(SN)]

## 10118193-0001LF
designator XS?  (value not drawn)
USB - micro B USB 2.0 Receptacle Connector 5 Position Surface Mount, Right Angle, Horizontal; Manufacturer: Amphenol FCI; Gender: Female; Connector Type: Receptacle,USB; Number of Contacts: 5; Insulation Resistance: 1GR; Number of Ports: 1; Current Rating: 1.8A; Max Voltage Rating (AC): 100V; Pitch: 0.65mm; Supplier 1: Digi-Key; Manufacturer Part Number: 10118193-0001LF; Stock 1: 277505; Pricing 1: 1=0.42, 10=0.393, 25=0.3536, 50=0.3144, 100=0.3013, 250=0.27512, 500=0.26202 (USD); Mount: Horizontal,Surface Mount; Contact Material: Copper Alloy; Contact Plating: Gold; Colour: Black; Number of Terminals: 5; Housing Material: Polymer; Min Operating Temperature: -55°C; Max Operating Temperature: 85°C; Termination: Solder; Orientation: Right Angle; Package Quantity: 1200; Packaging: Tape and Reel; Voltage Rating: 100V; Features: Shielded; Length: 7.86mm; Depth: 5.67mm; Radiation Hardening: No; Flammability Rating: UL94 V-0; ComponentLink1URL: https://cdn.amphenol-icc.com/media/wysiwyg/files/documentation/datasheet/inputoutput/io_usb_micro.pdf; ComponentLink1Description: https://cdn.amphenol-icc.com/media/wysiwyg/files/documentation/datasheet/inputoutput/io_usb_micro.pdf; Supplier Part Number 1: 609-4616-1-ND
footprint Amphenol 10118193-0001LF (USB Micro-B)
pins: 1, 2, 3, 4, 5, 6
text: Цепь; Конт.; Vbus; DM; DP; ID; GND; Shield

## A4950ELJTR-T
designator DA?
ALLEGRO MICROSYSTEMS - A4950ELJTR-T - Full Bridge DMOS PWM Motor Driver, 40V/3.5A/2 Outputs, SOIC-8; Min Supply Voltage: 8V; Max Supply Voltage: 40V; Number of Outputs: 1; Output Current: 3.5A; Motor Type: Brushed; Supplier 1: Digi-Key; Manufacturer: Allegro MicroSystems; Manufacturer Part Number: A4950ELJTR-T; RoHS: Yes; Category: Integrated Circuits (ICs); Stock 1: 7615; Pricing 1: 1=2,84000, 10=2,54700, 25=2,40760, 100=1,97950, 250=1,77620, 500=1,71200, 1000=1,42310 (USD); Mount: Surface Mount; Case/Package: SOIC; Number of Pins: 8; Min Operating Temperature: -40°C; Max Operating Temperature: 85°C; Packaging: Tape and Reel; Package Quantity: 1; Max Collector Current: 3.5A; Output Voltage: 40V; Collector Emitter Voltage (VCEO): 40V; Length: 4.9mm; Height: 1.55mm; Width: 3.9mm; Radiation Hardening: No; Lead Free: Lead Free; REACH SVHC: No SVHC; ComponentLink1URL: https://datasheet.ciiva.com/1958/a4950-datasheet-1958374.pdf?src-supplier=Digi-Key; ComponentLink1Description: https://datasheet.ciiva.com/1958/a4950-datasheet-1958374.pdf?src-supplier=Digi-Key; ComponentLink2URL: https://datasheet.ciiva.com/26941/getdatasheetpartid-367820-26941434.pdf?src-supplier=Verical; ComponentLink2Description: https://datasheet.ciiva.com/26941/getdatasheetpartid-367820-26941434.pdf?src-supplier=Verical; ComponentLink3URL: https://datasheet.ciiva.com/1608/1481251-1608443.pdf?src-supplier=Newark; ComponentLink3Description: https://datasheet.ciiva.com/1608/1481251-1608443.pdf?src-supplier=Newark; ComponentLink4URL: https://datasheet.ciiva.com/25626/0900766b8106a184-25626637.pdf?src-supplier=RSComponents; ComponentLink4Description: https://datasheet.ciiva.com/25626/0900766b8106a184-25626637.pdf?src-supplier=RSComponents; Supplier Part Number 1: 620-1400-1-ND
footprint SOIC127P600X170_HS-9N_allegro (SOIC, 8-Leads, Body 4,90x3,90mm, Pitch 1,27mm, Thermal Pad 3,30x2,41mm, IPC Medium Density)
pins: 1 GND (power), 2 IN2 (in), 3 IN1 (in), 4 VREF (in), 5 VBB (power), 6 OUT1, 7 LSS, 8 OUT2, 9 GND (power)

## A4952ELYTR-T
designator DA?
ALLEGRO MICROSYSTEMS - A4952ELYTR-T - MOTOR DVR, FULL, 10MSOP; Number of Outputs: 1; Output Current: 10mA; Output Voltage: 40V; Min Supply Voltage: 8V; Max Collector Current: 2A; Supplier 1: Digi-Key; Manufacturer: Allegro MicroSystems; Manufacturer Part Number: A4952ELYTR-T; RoHS: Yes; Category: Integrated Circuits (ICs); Stock 1: 4592; Pricing 1: 1=2,04000, 10=1,82900, 25=1,72520, 100=1,38000, 250=1,20752, 500=1,17300, 1000=0,93150 (USD); Mount: Surface Mount; Case/Package: MSOP; Number of Pins: 10; Min Operating Temperature: -40°C; Max Operating Temperature: 85°C; Max Supply Voltage: 40V; Packaging: Tape and Reel; Package Quantity: 4000; Length: 3mm; Height: 0.86mm; Width: 3mm; REACH SVHC: No SVHC; ComponentLink1URL: https://datasheet.ciiva.com/3229/a4952-3-datasheet-3229520.pdf?src-supplier=Avnet; ComponentLink1Description: https://datasheet.ciiva.com/3229/a4952-3-datasheet-3229520.pdf?src-supplier=Avnet; ComponentLink2URL: https://datasheet.ciiva.com/1608/1481259-1608444.pdf?src-supplier=Newark; ComponentLink2Description: https://datasheet.ciiva.com/1608/1481259-1608444.pdf?src-supplier=Newark; ComponentLink3URL: https://datasheet.ciiva.com/17233/a4952-3-datasheet-17233766.pdf?src-supplier=Avnet+Europe; ComponentLink3Description: https://datasheet.ciiva.com/17233/a4952-3-datasheet-17233766.pdf?src-supplier=Avnet+Europe; Supplier Part Number 1: 620-1451-1-ND
footprint TSSOP50P490X86_HS-11N_allegro (TSSOP, 10-Leads, Body 3,00x3,00mm, Pitch 0,50mm, Thermal Pad 1,98x1,73mm, IPC Medium Density)
pins: 1 ~{FLT} (out), 2 RTRY (in), 3 IN2 (in), 4 IN1 (in), 5 VREF (in), 6 VBB (power), 7 OUT1, 8 LSS, 9 OUT2, 10 GND (power), 11 GND (power)

## ABM8G-12.000MHZ-4Y-T3
designator BQ?  (value not drawn)
12MHz ±30ppm Crystal 10pF 120 Ohm -10°C ~ 60°C  Surface Mount 4-SMD, No Lead (DFN, LCC); Manufacturer: Abracon; ESR (Equivalent Series Resistance): 120R; Supplier 1: Digi-Key; Manufacturer Part Number: ABM8G-12.000MHZ-4Y-T3; Stock 1: 100422; Pricing 1: 1=0.45, 10=0.371, 50=0.3342, 100=0.297, 500=0.28216, 1000=0.2376 (USD); Mount: Surface Mount; Case/Package: CSMD; Number of Pins: 4; Min Operating Temperature: -10°C; Max Operating Temperature: 60°C; Frequency: 12MHz; Load Capacitance: 10pF; Packaging: Tape and Reel; Frequency Tolerance: 30ppm; Frequency Stability: 30ppm; Series Resistance: 120R; Length: 3.2mm; Height: 0.039inch; Width: 0.098inch; Depth: 2.5mm; REACH SVHC: No SVHC; Lead Free: Lead Free; ComponentLink1URL: https://www.verical.com/server-webapp/html/getDatasheet?partID=719872; ComponentLink1Description: https://www.verical.com/server-webapp/html/getDatasheet?partID=719872; ComponentLink2URL: https://abracon.com/Resonators/ABM8G.pdf; ComponentLink2Description: https://abracon.com/Resonators/ABM8G.pdf; ComponentLink3URL: http://www.abracon.com/Resonators/ABM8G.pdf; ComponentLink3Description: http://www.abracon.com/Resonators/ABM8G.pdf; Supplier Part Number 1: 535-10901-1-ND
footprint ABM8G (Abracon ABM8G Crystal)
pins: 1, 3

## ABM11-142-27.120MHz
designator BQ?  (value not drawn)
27.12MHz ±10ppm Crystal 8pF 40 Ohm -20°C ~ 70°C  Surface Mount 4-SMD, No Lead (DFN, LCC); Manufacturer: Abracon; Manufacturer Part Number: ABM11-142-27.120MHZ-T3; ESR (Equivalent Series Resistance): 40R; Supplier 1: Digi-Key; Stock 1: 4799; Pricing 1: 1=0.62, 10=0.516, 50=0.464, 100=0.4125, 500=0.39188, 1000=0.33 (USD); Mount: Surface Mount; Case/Package: SMD/SMT; Min Operating Temperature: -20°C; Max Operating Temperature: 70°C; Packaging: Tape and Reel; Frequency: 27.12MHz; Load Capacitance: 8pF; Frequency Stability: 10ppm; Frequency Tolerance: 10ppm; Length: 0.081inch; Height: 0.02inch; Width: 0.065inch; Supplier Part Number 1: 535-13524-1-ND; РКД Наименование: *
footprint ABM11 (ABM11 Crystal)
pins: 1, 2, 3 2, 4

## ABS06-32.768KHZ-9-1-T
designator BQ?  (value not drawn)
CRYSTAL 32.7680KHZ 9PF SMD; Manufacturer: Abracon; ESR (Equivalent Series Resistance): 90kR; Tolerance: 10ppm; Supplier 1: Digi-Key; Stock 1: 49513; Pricing 1: 1=0.83, 10=0.734, 50=0.6858, 100=0.6061, 500=0.5742, 1000=0.4785 (USD); Mount: Surface Mount; Case/Package: CSMD; Number of Pins: 2; Min Operating Temperature: -40°C; Max Operating Temperature: 85°C; Frequency: 32.768kHz; Load Capacitance: 9pF; Packaging: Tape and Reel; Package Quantity: 3000; Frequency Tolerance: 10ppm; Termination: SMD/SMT; Series Resistance: 90kR; Length: 2mm; Height: 0.024inch; Width: 1.2mm; Depth: 1.2mm; Radiation Hardening: No; REACH SVHC: No SVHC; ComponentLink1URL: http://www.abracon.com/Resonators/ABS06.pdf?src-supplier=Element14; ComponentLink1Description: http://www.abracon.com/Resonators/ABS06.pdf?src-supplier=Element14; ComponentLink2URL: https://abracon.com/Support/PackageDrawing/Resonators/ABS06.PDF?src-supplier=Digi-Key; ComponentLink2Description: https://abracon.com/Support/PackageDrawing/Resonators/ABS06.PDF?src-supplier=Digi-Key; ComponentLink3URL: http://www.abracon.com/Resonators/ABS06.pdf?src-supplier=Avnet; ComponentLink3Description: http://www.abracon.com/Resonators/ABS06.pdf?src-supplier=Avnet; ComponentLink4URL: http://www.abracon.com/Resonators/ABS06.pdf?src-supplier=Farnell; ComponentLink4Description: http://www.abracon.com/Resonators/ABS06.pdf?src-supplier=Farnell; ComponentLink5URL: http://www.abracon.com/Resonators/ABS06.pdf?src-supplier=Avnet+Asia; ComponentLink5Description: http://www.abracon.com/Resonators/ABS06.pdf?src-supplier=Avnet+Asia; Manufacturer Part Number: ABS06-32.768KHZ-9-1-T; Supplier Part Number 1: 535-10247-1-ND
footprint Abracon ABS06
pins: 1, 2

## AD5320BRMZ
designator DD?
DAC 1-CH Resistor-String 12-bit 8-Pin MSOP Tube; Manufacturer: Analog Devices; Settling Time: 8us; Resolution: 12b; Integral Nonlinearity (INL): 16LSB; Conversion Rate: 125KS/s; Output Type: Voltage; Max Power Dissipation: 345uW; Interface: SPI,Serial; Number of Bits: 12; Number of Converters: 1; Max Supply Voltage: 5.5V; Min Supply Voltage: 2.7V; Differential Output: No; Slew Rate: 1V/µs; Polarity: Unipolar; Operating Supply Voltage: 5V; Nominal Supply Current: 140uA; Supplier 1: Digi-Key; Manufacturer Part Number: AD5320BRMZ; Stock 1: 186; Pricing 1: 1=7,04000, 10=6,36400, 25=6,06800, 100=5,26880, 250=5,03200, 500=4,58800, 1000=4,14400 (USD); RoHS: Yes; Case/Package: MSOP; Number of Pins: 8; Contact Plating: Tin,Matte; Min Operating Temperature: -40°C; Max Operating Temperature: 105°C; Packaging: Rail/Tube; Package Quantity: 50; Number of Channels: 1; Number of D/A Converters: 1; Sampling Rate: 125KS/s; Max Input Voltage: 5.5V; Min Input Voltage: 2.7V; Max Output Voltage: 5.5V; Min Output Voltage: 2.7V; Number of DAC Channels: 1; Number of Outputs: 1; Length: 3mm; Height: 0.85mm; Width: 3mm; Radiation Hardening: No; Lead Free: Contains Lead; REACH SVHC: No SVHC; ComponentLink1URL: https://datasheet.ciiva.com/26803/ad5320brmz-26803200.pdf?src-supplier=IIIC; ComponentLink1Description: https://datasheet.ciiva.com/26803/ad5320brmz-26803200.pdf?src-supplier=IIIC; ComponentLink2URL: https://datasheet.ciiva.com/1142/81071-1142242.pdf?src-supplier=Element14; ComponentLink2Description: https://datasheet.ciiva.com/1142/81071-1142242.pdf?src-supplier=Element14; ComponentLink3URL: https://datasheet.ciiva.com/1361/ad5320-1361204.pdf?src-supplier=Digi-Key; ComponentLink3Description: https://datasheet.ciiva.com/1361/ad5320-1361204.pdf?src-supplier=Digi-Key; ComponentLink4URL: https://datasheet.ciiva.com/25918/ad5320-25918166.pdf?src-supplier=Avnet+Europe; ComponentLink4Description: https://datasheet.ciiva.com/25918/ad5320-25918166.pdf?src-supplier=Avnet+Europe; ComponentLink5URL: https://datasheet.ciiva.com/3040/ad5320-3040255.pdf?src-supplier=Avnet; ComponentLink5Description: https://datasheet.ciiva.com/3040/ad5320-3040255.pdf?src-supplier=Avnet; ComponentLink6URL: https://datasheet.ciiva.com/48705/001246331-da-01-en-ic-dac-12bit-r-r-w-ad5320brmz-msop-8-adi-48705285.pdf?src-supplier=Conrad; ComponentLink6Description: https://datasheet.ciiva.com/48705/001246331-da-01-en-ic-dac-12bit-r-r-w-ad5320brmz-msop-8-adi-48705285.pdf?src-supplier=Conrad; Supplier Part Number 1: AD5320BRMZ-ND
footprint TSOP65P490X110-8N (TSOP, 8-Leads, Body 3,00x3,00mm, Pitch 0,65mm, IPC Medium Density)
pins: 1 VDD (power), 4 VOUT (out), 5 ~{SYNC} (in), 6 SCLK (in), 7 DIN (in), 8 GND (power)

## AD5627RBCPZ
designator D?
DAC 2-CH Resistor-String 12-bit 10-Pin LFCSP EP T/R; Manufacturer: Analog Devices; Manufacturer Part Number: AD5627RBCPZ-REEL7; Settling Time: 3us; Resolution: 12b; Conversion Rate: 333KS/s; Integral Nonlinearity (INL): 1LSB; Output Type: Voltage; Max Power Dissipation: 5.75mW; Number of DAC Channels: 2; Interface: I2C,Serial,2-Wire; Max Supply Voltage: 5.5V; Min Supply Voltage: 2.7V; Number of Bits: 12; Differential Output: No; Power Dissipation: 6.3mW; Min Output Voltage: 0uV; Slew Rate: 1.8V/µs; IIC Address: 00011aa; Supplier 1: Digi-Key; RoHS: Yes; Category: Digital to Analog Converters (DACs); Stock 1: 1366; Pricing 1: 1=6,55000, 10=5,88300, 25=5,56200, 100=4,57320, 250=4,10352, 500=3,95520 (USD); Case/Package: LFCSP EP; Number of Pins: 10; Min Operating Temperature: -40°C; Max Operating Temperature: 105°C; Package Quantity: 1500; Number of Channels: 2; Packaging: Tape and Reel; Number of D/A Converters: 2; Number of Converters: 2; Sampling Rate: 333KS/s; Max Input Voltage: 5.5V; Min Input Voltage: 2.7V; Max Output Voltage: 5.5V; REACH SVHC: No SVHC; Lead Free: Contains Lead; ComponentLink1URL: https://datasheet.ciiva.com/26805/ad5627rbcpz-reel7-26805947.pdf?src-supplier=IIIC; ComponentLink1Description: https://datasheet.ciiva.com/26805/ad5627rbcpz-reel7-26805947.pdf?src-supplier=IIIC; ComponentLink2URL: https://datasheet.ciiva.com/16599/ad5627r-5647r-5667r-5627-5667-16599173.pdf?src-supplier=Avnet+Europe; ComponentLink2Description: https://datasheet.ciiva.com/16599/ad5627r-5647r-5667r-5627-5667-16599173.pdf?src-supplier=Avnet+Europe; ComponentLink3URL: https://datasheet.ciiva.com/8191/ad5627r-5647r-5667r-5627-5667-8191870.pdf?src-supplier=Avnet; ComponentLink3Description: https://datasheet.ciiva.com/8191/ad5627r-5647r-5667r-5627-5667-8191870.pdf?src-supplier=Avnet; Supplier Part Number 1: AD5627RBCPZ-REEL7CT-ND
footprint SON50P300X80_HS-11N (SON, 10-Leads, Body 3,00x3,00mm, Pitch 0,50mm, Thermal Pad 2,36x1,49mm, IPC Medium Density)
pins: 1 VOUTA (out), 2 VOUTB (out), 3 GND (power), 4 ~{LDAC} (in), 5 ~{CLR} (in), 6 ADDR (in), 7 SCL (in), 8 SDA (io), 9 VDD, 10 VREF (io), 11 GND (power)

## AD9826KRSZ
designator DA?
IC IMAGE SGNL PROC 16BIT 28-SSOP; Manufacturer: Analog Devices; Operating Supply Voltage: 5V; Interface: Serial,Parallel; Resolution: 16b; Sampling Rate: 15MS/s; Number of Channels: 3; Max Supply Voltage: 5.25V; Min Supply Voltage: 4.75V; Number of A/D Converters: 1; Max Power Dissipation: 400mW; Differential Nonlinearity: 0.5LSB; Operating Supply Current: 80mA; Supplier 1: Digi-Key; Manufacturer Part Number: AD9826KRSZ; RoHS: Yes; Category: Optoelectronics; Stock 1: 1366; Pricing 1: 1=12,18000, 10=11,19400, 25=10,73000, 100=9,45400, 250=8,99000, 500=8,41000, 1000=7,83000 (USD); Mount: Surface Mount; Case/Package: SSOP; Number of Pins: 28; Min Operating Temperature: -40°C; Max Operating Temperature: 85°C; Packaging: Rail/Tube; Number of Converters: 1; Power Dissipation: 400mW; Package Quantity: 47; Length: 10.2mm; Height: 1.75mm; Width: 5.3mm; Radiation Hardening: No; Lead Free: Contains Lead; REACH SVHC: No SVHC; ComponentLink1URL: https://datasheet.ciiva.com/1611/ad9826-1611698.pdf?src-supplier=Newark; ComponentLink1Description: https://datasheet.ciiva.com/1611/ad9826-1611698.pdf?src-supplier=Newark; ComponentLink2URL: https://datasheet.ciiva.com/15373/ad9826-243709-15373659.pdf?src-supplier=Mouser; ComponentLink2Description: https://datasheet.ciiva.com/15373/ad9826-243709-15373659.pdf?src-supplier=Mouser; ComponentLink3URL: https://datasheet.ciiva.com/26838/ad9826krsz-26838956.pdf?src-supplier=IIIC; ComponentLink3Description: https://datasheet.ciiva.com/26838/ad9826krsz-26838956.pdf?src-supplier=IIIC; ComponentLink4URL: https://datasheet.ciiva.com/3026/ad9826-3026380.pdf?src-supplier=Avnet; ComponentLink4Description: https://datasheet.ciiva.com/3026/ad9826-3026380.pdf?src-supplier=Avnet; ComponentLink5URL: https://datasheet.ciiva.com/1781/ad9826-1781614.pdf?src-supplier=Digi-Key; ComponentLink5Description: https://datasheet.ciiva.com/1781/ad9826-1781614.pdf?src-supplier=Digi-Key; Supplier Part Number 1: AD9826KRSZ-ND
footprint SOP65P780X200-28N (SOP, 28-Leads, Body 10,20x5,30mm, Pitch 0,65mm, IPC Medium Density)
pins: 1 CDSCLK1 (in), 2 CDSCLK2 (in), 3 ADCCLK (in), 4 OEB (in), 5 DRVDD (power), 6 DRVSS (power), 7 D7 (out), 8 D6 (out), 9 D5 (out), 10 D4 (out), 11 D3 (out), 12 D2 (out), 13 D1 (out), 14 D0 (out), 15 SDATA (io), 16 SCLK (in), 17 SLOAD (in), 18 AVDD (power), 19 AVSS (power), 20 CAPB (out), 21 CAPT (out), 22 VINB (in), 23 CML (out), 24 VING (in), 25 OFFSET (io), 26 VINR (in), 27 AVSS (power), 28 AVDD (power)
text: A/D

## Amphenol 10118194-0001LF
designator XS?  (value not drawn)
РКД Наименование: *
footprint Amphenol 10118194-0001LF
pins: 1, 2, 3, 4, 5, 6
text: Цепь; Конт.; Vbus; DM; DP; ID; GND; Shield